# Altium footprint library SJ1-2503A.PcbLib: 1 footprints
Each footprint in its own frame and in the unit in brackets; x right, y up, seen from the top. Pads: shape width x height; smd on the part's side, far side on the other; paste and mask are expansions set on the pad; w line width, h text height; cw(c..) or ccw(c..) is an arc to the next point about the centre after c.
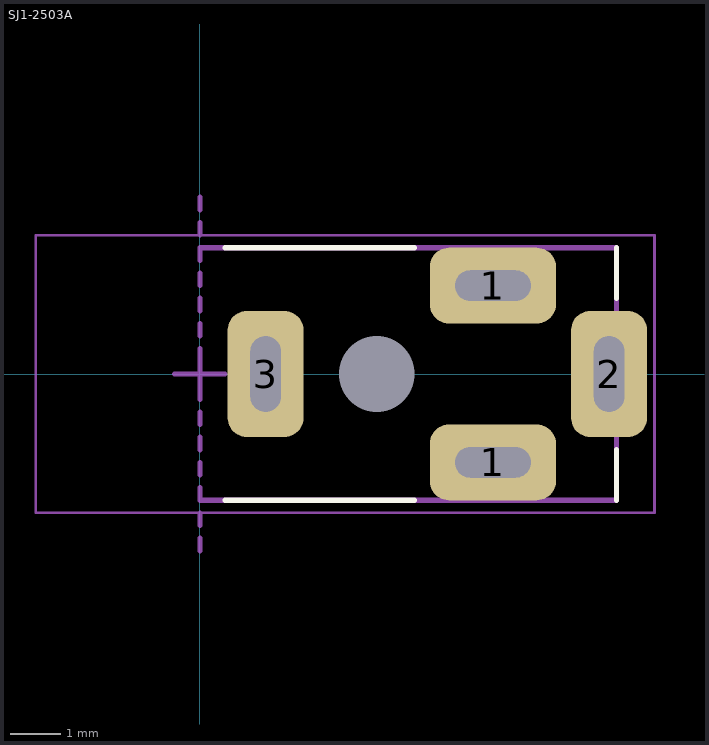
[diagram p0: the footprint, top view; thin cyan lines are the x and y axes]

## SJ1-2503A [mm]
pads (5):
  rrect50% 2.5x1.5 hole 0.6 slot 1.5 at 0 deg: 1(5.8,-1.75) 1(5.8,1.75)
  rrect50% 1.5x2.5 hole 0.6 slot 1.5 at 90 deg: 2(8.1,0) 3(1.3,0)
  round 0 hole 1.5 unplated: 4(3.5,0)
Top Overlay:
  lines w0.1: 0.5,-2.5 4.25,-2.5 ; 0.5,2.5 4.25,2.5 ; 8.25,-2.5 8.25,-1.5 ; 8.25,1.5 8.25,2.5
Mechanical 1:
  lines w0.1: 0,-3.5 0,-3.25 ; 0,-3 0,-2.75 ; 0,-2.25 0,-2.5 8.25,-2.5 8.25,2.5 0,2.5 0,2.25 ; 0,-2 0,-1.75 ; 0,-1.5 0,-1.25 ; 0,-1 0,-0.75 ; 0,-0.5 0,-0.25 ; 0,0.25 0,0.5 ; 0,0.75 0,1 ; 0,1.25 0,1.5 ; 0,1.75 0,2 ; 0,2.75 0,3 ; 0,3.25 0,3.5
  text "Edge" at -2.875,-0.408 h0.65
  text ".Designator" at 1.075,-0.258 h0.65
Mechanical 2:
  lines w0.05: -3.25,-2.75 9,-2.75 9,2.75 -3.25,2.75 -3.25,-2.75
  lines w0.1: -0.5,0 0.5,0 ; 0,-0.5 0,0.5
3D body "Same_Sky_SJ1-2503A.step": height 5.04, standoff -2.48, extent -3,-2.5 8.25,2.5